# Altium footprint library 691 232 510 0xx.PcbLib: 2 footprints
Each footprint in its own frame and in the unit in brackets; x right, y up, seen from the top. Pads: shape width x height; smd on the part's side, far side on the other; paste and mask are expansions set on the pad; w line width, h text height; cw(c..) or ccw(c..) is an arc to the next point about the centre after c.
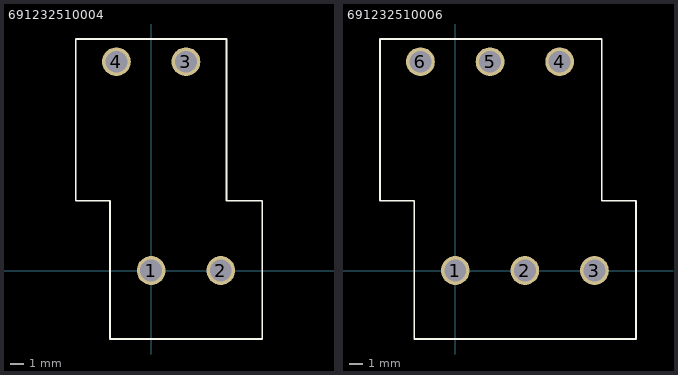
[diagram p0: the footprints below, top view; thin cyan lines are the x and y axes]

## 691232510004 [mm] "5,08mm - modular - 2 rows - Right - horizontal entry with rising cage clamp - 04p - h=25,3mm"
height 25.3
pads (4):
  round 2.1 hole 1.6: 1(0,0) 2(5.08,0) 3(2.54,15.24) 4(-2.54,15.24)
Top Overlay:
  lines w0.127: -5.5,5.1 -3,5.1 -3,-5 8.1,-5 8.1,5.1 5.5,5.1 5.5,16.9 -5.5,16.9 -5.5,5.1
3D body: height 25.31, standoff -3.49, extent -5.5,-5 8.16,16.9

## 691232510006 [mm] "5,08mm - modular - 2 rows - Right - horizontal entry with rising cage clamp - 06p - h=25,3mm"
height 25.3
pads (6):
  round 2.1 hole 1.6: 1(0,0) 2(5.08,0) 3(10.16,0) 4(7.62,15.24) 5(2.54,15.24) 6(-2.54,15.24)
Top Overlay:
  lines w0.127: -5.5,5.1 -3,5.1 -3,-5 13.2,-5 13.2,5.1 10.7,5.1 10.7,16.9 -5.5,16.9 -5.5,5.1
3D body: height 25.31, standoff -3.49, extent -5.54,-5 13.2,16.9